# Altium schematic symbol library checked.SchLib: 26 symbols
Pins are listed as number, name and electrical type; pins without a type are passive.

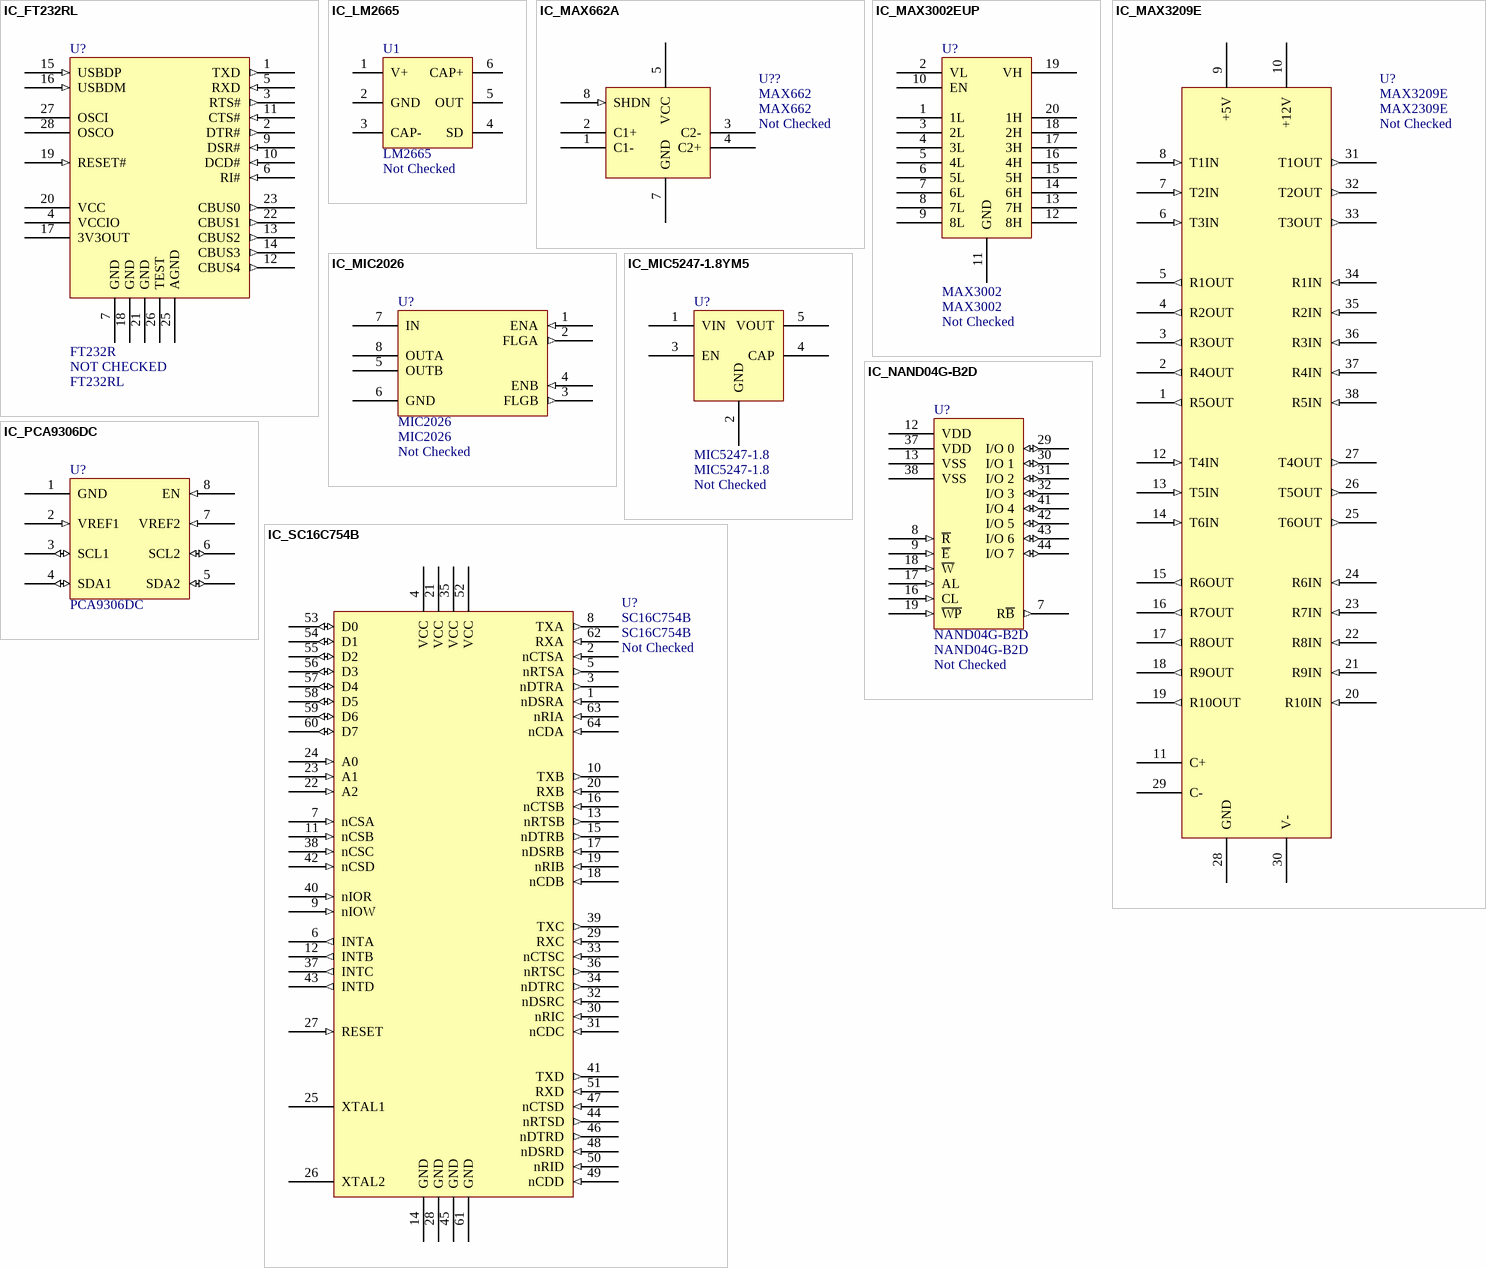
[diagram p0: symbols IC_FT232RL to IC_SC16C754B]

## IC_FT232RL
designator U?, comment FT232R  value FT232RL  Verify: NOT CHECKED
IC USB TO SERIAL UART 28-SSOP; Manufacturer: FTDI; Manufacturer PN: FT232RL R; Prototype: Digikey 768-1007-1-ND; Latest Revision Date: 9 April 09
footprint SSOP-28 (SOP, 28-Leads, Body 10.5x5.6mm (max), Pitch 0.65mm, IPC Medium Density)
pins: 1 TXD (out), 2 DTR# (out), 3 RTS# (out), 4 VCCIO (power), 5 RXD (in), 6 RI# (in), 7 GND (power), 8 NC hidden, 9 DSR# (in), 10 DCD# (in), 11 CTS# (in), 12 CBUS4 (out), 13 CBUS2 (out), 14 CBUS3 (out), 15 USBDP (in), 16 USBDM (in), 17 3V3OUT (power), 18 GND (power), 19 RESET# (in), 20 VCC (power), 21 GND (power), 22 CBUS1 (out), 23 CBUS0 (out), 24 NC hidden, 25 AGND (power), 26 TEST (power), 27 OSCI (power), 28 OSCO (power)

## IC_LM2665
designator U1, comment Verify: Not Checked  (hidden comment: LM2665)
Switched Capacitor Voltage Converter; Manufacturer: National Semiconductor; Manufacturer PN: LM2665M6/NOPB; Prototype: Digikey LM2665M6CT-ND; LatestRevisionDate: 11 June 09; Value: LM2665
footprint SOT23-6 (SOT-23/SC-74A; 6 Leads; Body 3.1 x 3 mm, inc. leads (LxW max))
pins: 1 V+ (power), 2 GND, 3 CAP-, 4 SD, 5 OUT (power), 6 CAP+ (power)

## IC_MAX662A
designator U??, comment MAX662  Verify: Not Checked
IC PROG SUPP FLASH MEM 12V 8SOIC; Manufacturer: Maxim; Manufacturer PN: MAX662ACSA+; Prototype: Digikey  MAX662ACSA+-ND; LatestRevisionDate: 20 May 2009; Value: MAX662
footprint SOIC8_M (8-Pin Small Outline Integrated Circuit Package (SOIC8), IPC Low Density)
pins: 1 C1-, 2 C1+, 3 C2-, 4 C2+, 5 VCC (power), 7 GND (power), 8 SHDN (in) "Shutdown"

## IC_MAX3002EUP
designator U?, comment MAX3002  Verify: Not Checked
IC TRANSLATOR LEVEL 8CH 20TSSOP; Manufacturer: Maxim; Manufacturer PN: MAX3002EUP+; Prototype: Digikey MAX3002EUP+-ND; LatestRevisionDate: 15 April 2009; Value: MAX3002
footprint TSSOP20 (Shrink Small Outline; 20 Leads; Body Width 4.4 mm; Pitch 0.65 mm)
pins: 1 1L, 2 VL, 3 2L, 4 3L, 5 4L, 6 5L, 7 6L, 8 7L, 9 8L, 10 EN, 11 GND, 12 8H, 13 7H, 14 6H, 15 5H, 16 4H, 17 3H, 18 2H, 19 VH, 20 1H

## IC_MAX3209E
designator U?, comment MAX3209E  value MAX2309E  Verify: Not Checked
IC TXRX LP DUAL RS232 38-TSSOP; Manufacturer: Maxim Integrated Products; Manufacturer PN: MAX3209ECUU+; Prototype: MAX3209ECUU+-ND; LatestRevisionDate: 15 April 2009
footprint TSSOP-38 (TSSOP, 38-Leads, Body 9.6x4.5mm (max), Pitch 0.50mm, IPC Medium Density)
pins: 1 R5OUT (out), 2 R4OUT (out), 3 R3OUT (out), 4 R2OUT (out), 5 R1OUT (out), 6 T3IN (in), 7 T2IN (in), 8 T1IN (in), 9 +5V (power), 10 +12V (power), 11 C+, 12 T4IN (in), 13 T5IN (in), 14 T6IN (in), 15 R6OUT (out), 16 R7OUT (out), 17 R8OUT (out), 18 R9OUT (out), 19 R10OUT (out), 20 R10IN (in), 21 R9IN (in), 22 R8IN (in), 23 R7IN (in), 24 R6IN (in), 25 T6OUT (out), 26 T5OUT (out), 27 T4OUT (out), 28 GND (power), 29 C-, 30 V- (power), 31 T1OUT (out), 32 T2OUT (out), 33 T3OUT (out), 34 R1IN (in), 35 R2IN (in), 36 R3IN (in), 37 R4IN (in), 38 R5IN (in)

## IC_MIC2026
designator U?, comment MIC2026  Verify: Not Checked
IC DISTRIBUTION SW DUAL 8-SOIC; Manufacturer: Micrel Inc; Manufacturer PN: MIC2026-1YM; Prototype: Digikey 576-2137-ND; LastestRevisionDate: 15 April 2009; Value: MIC2026
footprint SOIC8CN (SOIC, 8-Leads, Body 4.9x3.9mm, Pitch 1.27mm, IPC Medium Density)
pins: 1 ENA (in), 2 FLGA (out), 3 FLGB (out), 4 ENB (in), 5 OUTB (power), 6 GND (power), 7 IN (power), 8 OUTA (power)

## IC_MIC5247-1.8YM5
designator U?, comment MIC5247-1.8  Verify: Not Checked
IC REG VOLT 150MA 1.8V SOT23-5; Manufacturer: Micrel Inc; Manufacturer PN: MIC5247-1.8YM5 TR; Prototype: Digikey 576-1288-1-ND; LatestRevisionDate: 15 April 2009; Value: MIC5247-1.8
footprint SOT23-5 (SOT23, 5 leads)
pins: 1 VIN (power), 2 GND (power), 3 EN (power), 4 CAP (power), 5 VOUT (power)

## IC_NAND04G-B2D
designator U?, comment NAND04G-B2D  Verify: Not Checked
IC FLASH NAND 4GBIT 48-TSOP; Manufacturer: Numonyx; Manufacturer PN: NAND04GW3B2DN6E; Prototype: Digikey NAND04GW3B2DN6E-ND; LastestRevisionDate: 20 May 2009; Value: NAND04G-B2D
pins: 7 R~{B} (out) "Ready / Busy", 8 ~{R} (in) "Read Enable", 9 ~{E} (in) "Enable", 12 VDD (power), 13 VSS (power), 16 CL (in) "Command Latch Enable", 17 AL (in) "Address Latch Enable", 18 ~{W} (in) "Write Enable", 19 ~{WP} (in) "Write Protect", 29 I/O 0 (io), 30 I/O 1 (io), 31 I/O 2 (io), 32 I/O 3 (io), 37 VDD, 38 VSS, 41 I/O 4 (io), 42 I/O 5 (io), 43 I/O 6 (io), 44 I/O 7 (io)

## IC_PCA9306DC
designator U?, comment PCA9306DC
IC LEVEL TRANSLATOR I2C BUS 8VSSOP; Manufacturer: NXP Semiconductor; Prototype: DigiKey 568-4213-1-ND; Manufacturer PN: PCA9306DC; LatestRevisionDate: 29 May 08; Value: PCA9306DC
footprint VSSOP-8 (TSSOP, 8-Leads, Body 2.1x2.4mm (max), Pitch 0.50mm, IPC Medium Density)
pins: 1 GND (power), 2 VREF1 (in), 3 SCL1 (io), 4 SDA1 (io), 5 SDA2 (io), 6 SCL2 (io), 7 VREF2 (in), 8 EN (in)

## IC_SC16C754B
designator U?, comment SC16C754B  Verify: Not Checked
IC UART QUAD W/FIFO 64-LQFP; Manufacturer: NXP Semiconductors; Manufacturer PN: SC16C754BIBM,151; Prototype: 568-3290-ND; LatestRevisionDate: 15 April 2009; Value: SC16C754B
footprint LQFP-64 (TSQFP, 64-Leads, Body 9.1x9.1mm (max), Pitch 0.40mm, IPC Medium Density)
pins: 1 nDSRA (in), 2 nCTSA (in), 3 nDTRA (out), 4 VCC (power), 5 nRTSA (out), 6 INTA (out), 7 nCSA (in), 8 TXA (out), 9 nIOW (in), 10 TXB (out), 11 nCSB (in), 12 INTB (out), 13 nRTSB (out), 14 GND (power), 15 nDTRB (out), 16 nCTSB (in), 17 nDSRB (in), 18 nCDB (in), 19 nRIB (in), 20 RXB (in), 21 VCC (power), 22 A2 (in), 23 A1 (in), 24 A0 (in), 25 XTAL1 (power), 26 XTAL2 (power), 27 RESET (in), 28 GND (power), 29 RXC (in), 30 nRIC (in), 31 nCDC (in), 32 nDSRC (in), 33 nCTSC (in), 34 nDTRC (out), 35 VCC (power), 36 nRTSC (out), 37 INTC (out), 38 nCSC (in), 39 TXC (out), 40 nIOR (in), 41 TXD (out), 42 nCSD (in), 43 INTD (out), 44 nRTSD (out), 45 GND (power), 46 nDTRD (out), 47 nCTSD (in), 48 nDSRD (in), 49 nCDD (in), 50 nRID (in), 51 RXD (in), 52 VCC (power), 53 D0 (io), 54 D1 (io), 55 D2 (io), 56 D3 (io), 57 D4 (io), 58 D5 (io), 59 D6 (io), 60 D7 (io), 61 GND (power), 62 RXA (in), 63 nRIA (in), 64 nCDA (in)

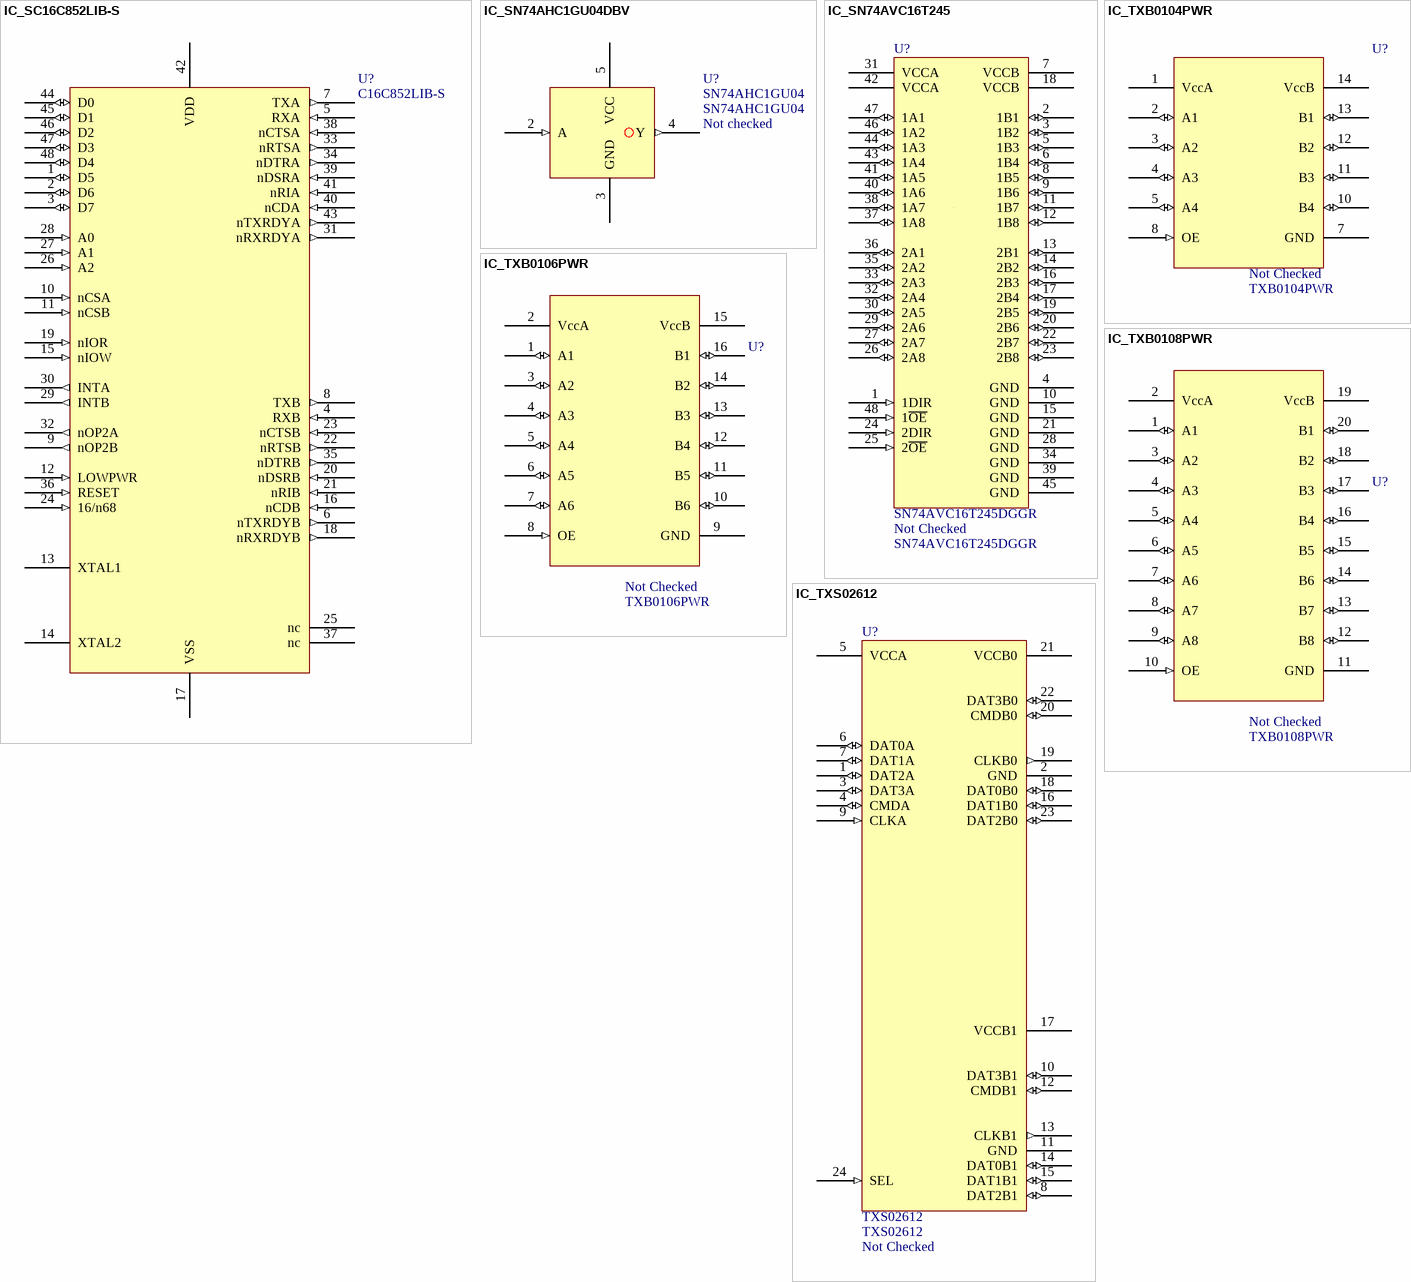
[diagram p1: symbols IC_SC16C852LIB-S to IC_TXS02612]

## IC_SC16C852LIB-S
designator U?, comment C16C852LIB-S
Dual high speed UARTs, bus connected
footprint LQFP-48 (TSQFP, 48-Leads, Body 9.1x9.1mm (max), Pitch 0.50mm, IPC Medium Density)
pins: 1 D5 (io), 2 D6 (io), 3 D7 (io), 4 RXB (in), 5 RXA (in), 6 nTXRDYB (out), 7 TXA (out), 8 TXB (out), 9 nOP2B (out), 10 nCSA (in), 11 nCSB (in), 12 LOWPWR (in), 13 XTAL1 (power), 14 XTAL2 (power), 15 nIOW (in), 16 nCDB (in), 17 VSS (power), 18 nRXRDYB (out), 19 nIOR (in), 20 nDSRB (in), 21 nRIB (in), 22 nRTSB (out), 23 nCTSB (in), 24 16/n68 (in), 25 nc, 26 A2 (in), 27 A1 (in), 28 A0 (in), 29 INTB (out), 30 INTA (out), 31 nRXRDYA (out), 32 nOP2A (out), 33 nRTSA (out), 34 nDTRA (out), 35 nDTRB (out), 36 RESET (in), 37 nc, 38 nCTSA (in), 39 nDSRA (in), 40 nCDA (in), 41 nRIA (in), 42 VDD (power), 43 nTXRDYA (out), 44 D0 (io), 45 D1 (io), 46 D2 (io), 47 D3 (io), 48 D4 (io)

## IC_SN74AHC1GU04DBV
designator U?, comment SN74AHC1GU04  Verify: Not checked
IC SINGLE INVERTER SOT-23-5; Manufacturer: Texas Instruments; Manufacturer PN: SN74AHC1GU04DBVR; Prototype: Digikey 296-1095-1-ND; LatestRevisionDate: 9 April 09; Value: SN74AHC1GU04
footprint SOT23-5 (SOT23, 5 leads)
pins: 1 NC hidden, 2 A (in), 3 GND, 4 Y (out), 5 VCC

## IC_SN74AVC16T245
designator U?, comment SN74AVC16T245DGGR  Verify: Not Checked
IC BUS TRANSCVR 16BIT 48TSSOP; manufacturer: Texas Instruments; prototype: Digikey 296-18197-1-ND; manufacturer PN: SN74AVC16T245DGGR; LatestRevisionDate: 9 April 09; Value: SN74AVC16T245DGGR
footprint TSSOP-48 (TSSOP, 48-Leads, Body 12.6x6.2mm (max), Pitch 0.50mm, IPC Medium Density)
pins: 1 1DIR (in), 2 1B1 (io), 3 1B2 (io), 4 GND (power), 5 1B3 (io), 6 1B4 (io), 7 VCCB (power), 8 1B5 (io), 9 1B6 (io), 10 GND (power), 11 1B7 (io), 12 1B8 (io), 13 2B1 (io), 14 2B2 (io), 15 GND (power), 16 2B3 (io), 17 2B4 (io), 18 VCCB (power), 19 2B5 (io), 20 2B6 (io), 21 GND (power), 22 2B7 (io), 23 2B8 (io), 24 2DIR (in), 25 2~{OE} (in), 26 2A8 (io), 27 2A7 (io), 28 GND (power), 29 2A6 (io), 30 2A5 (io), 31 VCCA (power), 32 2A4 (io), 33 2A3 (io), 34 GND (power), 35 2A2 (io), 36 2A1 (io), 37 1A8 (io), 38 1A7 (io), 39 GND (power), 40 1A6 (io), 41 1A5 (io), 42 VCCA (power), 43 1A4 (io), 44 1A3 (io), 45 GND (power), 46 1A2 (io), 47 1A1 (io), 48 1~{OE} (in)

## IC_TXB0104PWR
designator U?  value TXB0104PWR  Verify: Not Checked  (hidden comment: *)
IC VOLT-LEVEL TRANSLATOR 14TSSOP; Manufacturer: Texas Instruments; Prototype: Digikey 296-21929-1-ND; LastRevisionDate: n/a; Manufacturer P/N: TXB0104PWR
footprint TSSOP-14_PW (TSOP, 14-Leads, Body 5.1x4.5mm (max), Pitch 0.65mm, IPC Medium Density)
pins: 1 VccA (power), 2 A1 (io), 3 A2 (io), 4 A3 (io), 5 A4 (io), 7 GND (power), 8 OE (in), 10 B4 (io), 11 B3 (io), 12 B2 (io), 13 B1 (io), 14 VccB (power)

## IC_TXB0106PWR
designator U?  value TXB0106PWR  Verify: Not Checked  (hidden comment: *)
IC VOLT-LEVEL TRANSLATOR 16TSSOP; Manufacturer: Texas Instruments; Prototype: Digikey 296-23759-1-ND; LastRevisionDate: n/a; Manufacturer P/N: TXB0106PWR
footprint TSSOP-16_PW (TSOP, 16-Leads, Body 5.1x4.5mm (max), Pitch 0.65mm, IPC Medium Density)
pins: 1 A1 (io), 2 VccA (power), 3 A2 (io), 4 A3 (io), 5 A4 (io), 6 A5 (io), 7 A6 (io), 8 OE (in), 9 GND (power), 10 B6 (io), 11 B5 (io), 12 B4 (io), 13 B3 (io), 14 B2 (io), 15 VccB (power), 16 B1 (io)

## IC_TXB0108PWR
designator U?  value TXB0108PWR  Verify: Not Checked  (hidden comment: *)
IC VOLT-LEVEL TRANSLATOR 20TSSOP; Manufacturer: Texas Instruments; Prototype: Digikey 296-21527-1-ND; LastRevisionDate: n/a; Manufacturer P/N: TXB0108PWR
footprint TSSOP-20_PW (TSOP, 20-Leads, Body 6.6x4.5mm (max), Pitch 0.65mm, IPC Medium Density)
pins: 1 A1 (io), 2 VccA (power), 3 A2 (io), 4 A3 (io), 5 A4 (io), 6 A5 (io), 7 A6 (io), 8 A7 (io), 9 A8 (io), 10 OE (in), 11 GND (power), 12 B8 (io), 13 B7 (io), 14 B6 (io), 15 B5 (io), 16 B4 (io), 17 B3 (io), 18 B2 (io), 19 VccB (power), 20 B1 (io)

## IC_TXS02612
designator U?, comment TXS02612  Verify: Not Checked
IC SDIO PORT EXPANDER 24-QFN; Manufacturer PN: TXS02612RTWR; Manufacturer: Texas Instruments; Prototype: Digikey 296-23869-1-ND; LastestRevisionDate: 9 April 09; Value: TXS02612
footprint QFN-24 (QFN, 24-Leads, Body 4.2x4.2mm (max), Pitch 0.50mm, IPC Medium Density)
pins: 1 DAT2A (io), 2 GND (power), 3 DAT3A (io), 4 CMDA (io), 5 VCCA (power), 6 DAT0A (io), 7 DAT1A (io), 8 DAT2B1 (io), 9 CLKA (in), 10 DAT3B1 (io), 11 GND (power), 12 CMDB1 (io), 13 CLKB1 (out), 14 DAT0B1 (io), 15 DAT1B1 (io), 16 DAT1B0 (io), 17 VCCB1 (power), 18 DAT0B0 (io), 19 CLKB0 (out), 20 CMDB0 (io), 21 VCCB0 (power), 22 DAT3B0 (io), 23 DAT2B0 (io), 24 SEL (in)

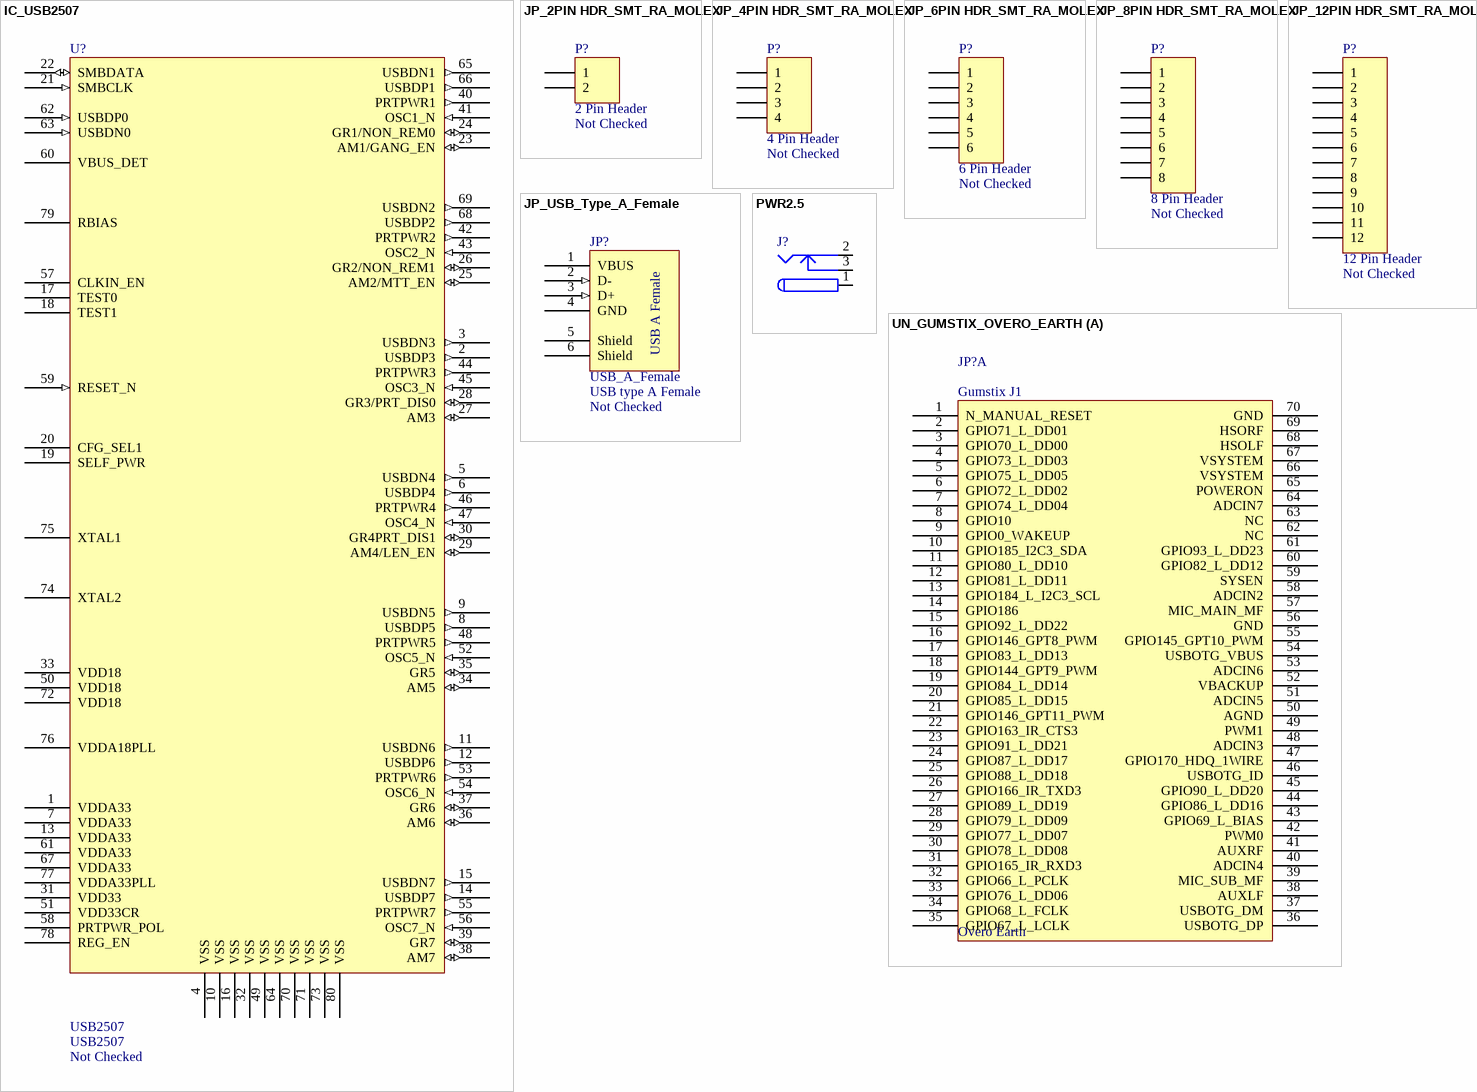
[diagram p2: symbols IC_USB2507 to UN_GUMSTIX_OVERO_EARTH]

## IC_USB2507
designator U?, comment USB2507  Verify: Not Checked
IC HUB 7PORT USB COMPATBL 80TQFP; Manufacturer: SMSC; Manufacturer PN: USB2507-ADT; Prototype: Digikey  638-1032-ND; LatestRevisionDate: 15 April 2009; Value: USB2507
footprint TQFP-80 (TSQFP, 80-Leads, Body 14.2x14.2mm (max), Pitch 0.50mm, IPC Medium Density)
pins: 1 VDDA33 (power), 2 USBDP3 (out), 3 USBDN3 (out), 4 VSS (power), 5 USBDN4 (out), 6 USBDP4 (out), 7 VDDA33 (power), 8 USBDP5 (out), 9 USBDN5 (out), 10 VSS (power), 11 USBDN6 (out), 12 USBDP6 (out), 13 VDDA33 (power), 14 USBDP7 (out), 15 USBDN7 (out), 16 VSS (power), 17 TEST0 (power), 18 TEST1 (power), 19 SELF_PWR (power), 20 CFG_SEL1 (power), 21 SMBCLK (in), 22 SMBDATA (io), 23 AM1/GANG_EN (io), 24 GR1/NON_REM0 (io), 25 AM2/MTT_EN (io), 26 GR2/NON_REM1 (io), 27 AM3 (io), 28 GR3/PRT_DIS0 (io), 29 AM4/LEN_EN (io), 30 GR4PRT_DIS1 (io), 31 VDD33 (power), 32 VSS (power), 33 VDD18 (power), 34 AM5 (io), 35 GR5 (io), 36 AM6 (io), 37 GR6 (io), 38 AM7 (io), 39 GR7 (io), 40 PRTPWR1 (out), 41 OSC1_N (in), 42 PRTPWR2 (out), 43 OSC2_N (in), 44 PRTPWR3 (out), 45 OSC3_N (in), 46 PRTPWR4 (out), 47 OSC4_N (in), 48 PRTPWR5 (out), 49 VSS (power), 50 VDD18 (power), 51 VDD33CR (power), 52 OSC5_N (in), 53 PRTPWR6 (out), 54 OSC6_N (in), 55 PRTPWR7 (out), 56 OSC7_N (in), 57 CLKIN_EN (power), 58 PRTPWR_POL (power), 59 RESET_N (in), 60 VBUS_DET (power), 61 VDDA33 (power), 62 USBDP0 (in), 63 USBDN0 (in), 64 VSS (power), 65 USBDN1 (out), 66 USBDP1 (out), 67 VDDA33 (power), 68 USBDP2 (out), 69 USBDN2 (out), 70 VSS (power), 71 VSS (power), 72 VDD18 (power), 73 VSS (power), 74 XTAL2 (power), 75 XTAL1 (power), 76 VDDA18PLL (power), 77 VDDA33PLL (power), 78 REG_EN (power), 79 RBIAS (power), 80 VSS (power)

## JP_2PIN HDR_SMT_RA_MOLEX
designator P?, comment Verify: Not Checked  (hidden comment: 2 Pin Header)
CONN HDR VERT 2POS .100" SNGL; Manufacturer: Molex; Manufacturer PN: 53261-0271; Prototype: Digikey WM7620CT-ND; LatestRevisionDate: 24 Jun 08; Value: 2 Pin Header
footprint CONN_2X1_SMT_RA_1.25MM (PicoBlade 5326 Series Header)
pins: 1, 2

## JP_4PIN HDR_SMT_RA_MOLEX
designator P?, comment Verify: Not Checked  (hidden comment: 4 Pin Header)
CONN HDR VERT 4POS .100" SNGL; Manufacturer: Molex; Manufacturer PN: 53261-0471; Prototype: Digikey WM7622CT-ND; LatestRevisionDate: 24 Jun 08; Value: 4 Pin Header
footprint CONN_4X1_SMT_RA_1.25MM (PicoBlade 5326 Series Header)
pins: 1, 2, 3, 4

## JP_6PIN HDR_SMT_RA_MOLEX
designator P?, comment Verify: Not Checked  (hidden comment: 6 Pin Header)
CONN HDR VERT 6POS .100" SNGL; Manufacturer: Molex; Manufacturer PN: 53261-0671; Prototype: Digikey WM7624CT-ND; LatestRevisionDate: 24 Jun 08; Value: 6 Pin Header
footprint CONN_6X1_SMT_RA_1.25MM (PicoBlade 5326 Series Header)
pins: 1, 2, 3, 4, 5, 6

## JP_8PIN HDR_SMT_RA_MOLEX
designator P?, comment Verify: Not Checked  (hidden comment: 8 Pin Header)
CONN HDR VERT 12POS .100" SNGL; Manufacturer: Molex; Manufacturer PN: 53261-0871; Prototype: Digikey WM7626CT-ND; LatestRevisionDate: 24 Jun 08; Value: 8 Pin Header
footprint CONN_8X1_SMT_RA_1.25MM (PicoBlade 5326 Series Header)
pins: 1, 2, 3, 4, 5, 6, 7, 8

## JP_12PIN HDR_SMT_RA_MOLEX
designator P?, comment Verify: Not Checked  (hidden comment: 12 Pin Header)
CONN HDR VERT 12POS .100" SNGL; Manufacturer: Molex; Manufacturer PN: 53261-1271; Prototype: Digikey WM7630CT-ND; LatestRevisionDate: 24 Jun 08; Value: 12 Pin Header
footprint CONN_12X1_SMT_RA_1.25MM (PicoBlade 5326 Series Header)
pins: 1, 2, 3, 4, 5, 6, 7, 8, 9, 10, 11, 12

## JP_USB_Type_A_Female
designator JP?, comment USB_A_Female  value USB type A Female  Verify: Not Checked
CONN RCPT USB TYPE A R/A GOLD; Manufacturer: Amphenol Commercial Products; Manufacturer PN: UE27AC54100; Prototype: Digikey UE27AC54100-ND; LatestRevisionDate: 15 April 2009
pins: 1 VBUS (power), 2 D- (in), 3 D+ (in), 4 GND (power), 5 Shield (power), 6 Shield (power)
text: USB A Female

## PWR2.5
designator J?
Low Voltage Power Supply Connector; Published: 17-Dec-2003; DatasheetDocument: 09-May-2002; Publisher: Altium Limited; ComponentLink1Description: Manufacturer Link; ComponentLink1URL: http://domino.kycon.com/internet/Products.html
footprint KLD-0202 (DC Power Jack, 2.5mm, KLD Series, PCB Mount)
signal-integrity model Connector
pins: 1 (power), 2 (power), 3 (power)

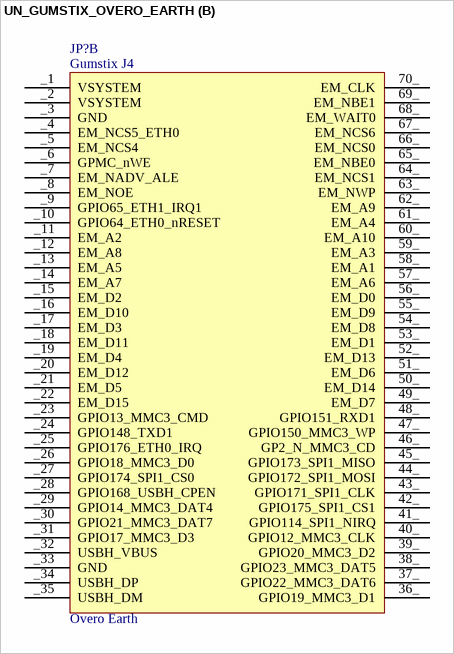
[diagram p3: symbol UN_GUMSTIX_OVERO_EARTH]

## UN_GUMSTIX_OVERO_EARTH
designator JP?, comment Overo Earth
Gumstix Overo OMAP35xx Computer Module
part A pins: 1 N_MANUAL_RESET, 2 GPIO71_L_DD01, 3 GPIO70_L_DD00, 4 GPIO73_L_DD03, 5 GPIO75_L_DD05, 6 GPIO72_L_DD02, 7 GPIO74_L_DD04, 8 GPIO10, 9 GPIO0_WAKEUP, 10 GPIO185_I2C3_SDA, 11 GPIO80_L_DD10, 12 GPIO81_L_DD11, 13 GPIO184_L_I2C3_SCL, 14 GPIO186, 15 GPIO92_L_DD22, 16 GPIO146_GPT8_PWM, 17 GPIO83_L_DD13, 18 GPIO144_GPT9_PWM, 19 GPIO84_L_DD14, 20 GPIO85_L_DD15, 21 GPIO146_GPT11_PWM, 22 GPIO163_IR_CTS3, 23 GPIO91_L_DD21, 24 GPIO87_L_DD17, 25 GPIO88_L_DD18, 26 GPIO166_IR_TXD3, 27 GPIO89_L_DD19, 28 GPIO79_L_DD09, 29 GPIO77_L_DD07, 30 GPIO78_L_DD08, 31 GPIO165_IR_RXD3, 32 GPIO66_L_PCLK, 33 GPIO76_L_DD06, 34 GPIO68_L_FCLK, 35 GPIO67_L_LCLK, 36 USBOTG_DP, 37 USBOTG_DM, 38 AUXLF, 39 MIC_SUB_MF, 40 ADCIN4, 41 AUXRF, 42 PWM0, 43 GPIO69_L_BIAS, 44 GPIO86_L_DD16, 45 GPIO90_L_DD20, 46 USBOTG_ID, 47 GPIO170_HDQ_1WIRE, 48 ADCIN3, 49 PWM1, 50 AGND, 51 ADCIN5, 52 VBACKUP, 53 ADCIN6, 54 USBOTG_VBUS, 55 GPIO145_GPT10_PWM, 56 GND, 57 MIC_MAIN_MF, 58 ADCIN2, 59 SYSEN, 60 GPIO82_L_DD12, 61 GPIO93_L_DD23, 62 NC, 63 NC, 64 ADCIN7, 65 POWERON, 66 VSYSTEM, 67 VSYSTEM, 68 HSOLF, 69 HSORF, 70 GND
part B pins: 36_ GPIO19_MMC3_D1, 37_ GPIO22_MMC3_DAT6, 38_ GPIO23_MMC3_DAT5, 39_ GPIO20_MMC3_D2, 40_ GPIO12_MMC3_CLK, 41_ GPIO114_SPI1_NIRQ, 42_ GPIO175_SPI1_CS1, 43_ GPIO171_SPI1_CLK, 44_ GPIO172_SPI1_MOSI, 45_ GPIO173_SPI1_MISO, 46_ GP2_N_MMC3_CD, 47_ GPIO150_MMC3_WP, 48_ GPIO151_RXD1, 49_ EM_D7, 50_ EM_D14, 51_ EM_D6, 52_ EM_D13, 53_ EM_D1, 54_ EM_D8, 55_ EM_D9, 56_ EM_D0, 57_ EM_A6, 58_ EM_A1, 59_ EM_A3, 60_ EM_A10, 61_ EM_A4, 62_ EM_A9, 63_ EM_NWP, 64_ EM_NCS1, 65_ EM_NBE0, 66_ EM_NCS0, 67_ EM_NCS6, 68_ EM_WAIT0, 69_ EM_NBE1, 70_ EM_CLK, _1 VSYSTEM, _2 VSYSTEM, _3 GND, _4 EM_NCS5_ETH0, _5 EM_NCS4, _6 GPMC_nWE, _7 EM_NADV_ALE, _8 EM_NOE, _9 GPIO65_ETH1_IRQ1, _10 GPIO64_ETH0_nRESET, _11 EM_A2, _12 EM_A8, _13 EM_A5, _14 EM_A7, _15 EM_D2, _16 EM_D10, _17 EM_D3, _18 EM_D11, _19 EM_D4, _20 EM_D12, _21 EM_D5, _22 EM_D15, _23 GPIO13_MMC3_CMD, _24 GPIO148_TXD1, _25 GPIO176_ETH0_IRQ, _26 GPIO18_MMC3_D0, _27 GPIO174_SPI1_CS0, _28 GPIO168_USBH_CPEN, _29 GPIO14_MMC3_DAT4, _30 GPIO21_MMC3_DAT7, _31 GPIO17_MMC3_D3, _32 USBH_VBUS, _33 GND, _34 USBH_DP, _35 USBH_DM
part A text: Gumstix J1
part B text: Gumstix J4